# Altium schematic symbol library FSM6JH.SchLib: 1 symbol
Pins are listed as number, name and electrical type; pins without a type are passive.

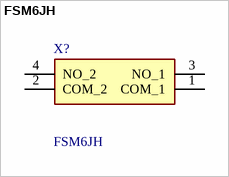
[diagram p0: symbol FSM6JH]

## FSM6JH
designator X?
Tactile Switches SPST OFF-(ON) Round pushbutton; Manufacturer_Name: TE Connectivity; Geometry.Height: 7mm; Manufacturer_Part_Number: FSM6JH; Mouser Part Number: 506-FSM6JH; Mouser Price/Stock: https://www.mouser.co.uk/ProductDetail/TE-Connectivity-PB/FSM6JH?qs=g%252BEszo6zu8NIk5JBdIFPPA%3D%3D; Arrow Part Number: FSM6JH; Arrow Price/Stock: https://www.arrow.com/en/products/fsm6jh/te-connectivity?region=nac; Datasheet Link: https://componentsearchengine.com/Datasheets/1/FSM6JH.pdf
footprint FSM6JH
pins: 1 COM_1, 2 COM_2, 3 NO_1, 4 NO_2